# Altium footprint library logo.PCBLIB: 51 footprints (part 1 of 4)
Each footprint in its own frame and in the unit in brackets; x right, y up, seen from the top. Pads: shape width x height; smd on the part's side, far side on the other; paste and mask are expansions set on the pad; w line width, h text height; cw(c..) or ccw(c..) is an arc to the next point about the centre after c.
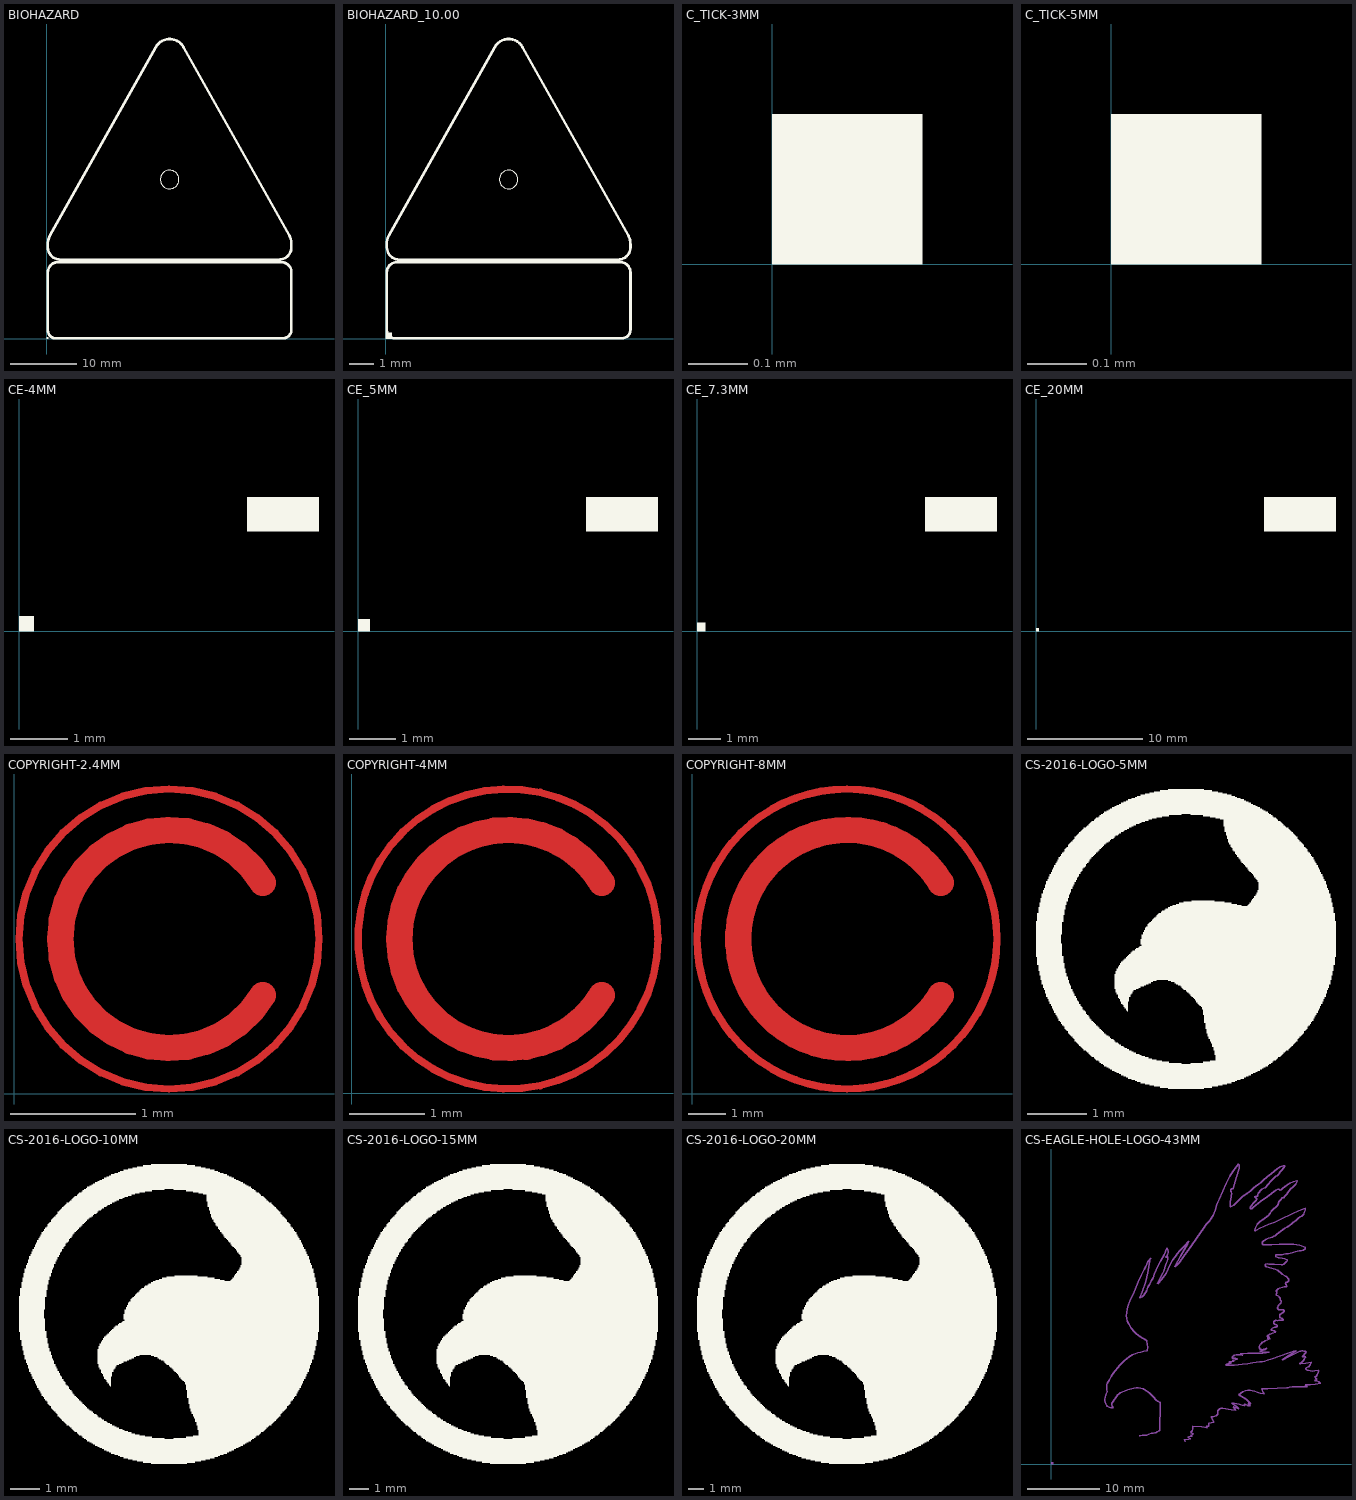
[diagram p0: the footprints below, top view; thin cyan lines are the x and y axes]

## BIOHAZARD [mm]
Top Overlay:
  circle w0.1: c18.6,24.1 r1.4
  region: 0,0 0.254,0 0.254,0.254 0,0.254
  region: 0,0 0.254,0 0.254,0.254 0,0.254
  region: 0,0 0.254,0 0.254,0.254 0,0.254
  region: 0,0 0.254,0 0.254,0.254 0,0.254
  region: 0,0 0.254,0 0.254,0.254 0,0.254
  region: 0,0 0.254,0 0.254,0.254 0,0.254
  region: 0,0 0.254,0 0.254,0.254 0,0.254
  region: 0,0 0.254,0 0.254,0.254 0,0.254
  region: 0,0 0.254,0 0.254,0.254 0,0.254
  region: 0,0 0.254,0 0.254,0.254 0,0.254
  region: 0,0 0.254,0 0.254,0.254 0,0.254
  region: 0,0 0.254,0 0.254,0.254 0,0.254
  region: 0,0 0.254,0 0.254,0.254 0,0.254
  region: 0,0 0.254,0 0.254,0.254 0,0.254
  region: 0,0 0.254,0 0.254,0.254 0,0.254
  region: 0,0 0.254,0 0.254,0.254 0,0.254
  region: 0,0 0.254,0 0.254,0.254 0,0.254
  region: 0,0 0.254,0 0.254,0.254 0,0.254
  region: 0,0 0.254,0 0.254,0.254 0,0.254
  region: 0,0 0.254,0 0.254,0.254 0,0.254
  region: 0,0 0.254,0 0.254,0.254 0,0.254
  lines w0.4: 0.2,1.3 0.2,10.1 cw(c1.7,10.1) 1.7,11.6 35.5,11.6 cw(c35.5,10.1) 37,10.1 37,1.4 cw(c35.7,1.4) 35.7,0.1 1.4,0.1 cw(c1.4,1.3) 0.2,1.3 ; 0.2,13.8 ccw(c2.05,13.85) 2.1,12 35.1,12 ccw(c35.15,13.85) 37,13.8 37,14.3 ccw(c34.575,14.425) 36.7,15.6 20.7,44.1 ccw(c18.6,42.922) 16.5,44.1 0.5,15.6 ccw(c2.625,14.425) 0.2,14.3 0.2,13.8

## BIOHAZARD_10.00 [mm]
Top Overlay:
  circle w0.027: c4.995,6.472 r0.376
  region: 0,0 0.254,0 0.254,0.254 0,0.254
  region: 0,0 0.254,0 0.254,0.254 0,0.254
  region: 0,0 0.254,0 0.254,0.254 0,0.254
  region: 0,0 0.254,0 0.254,0.254 0,0.254
  region: 0,0 0.254,0 0.254,0.254 0,0.254
  region: 0,0 0.254,0 0.254,0.254 0,0.254
  region: 0,0 0.254,0 0.254,0.254 0,0.254
  region: 0,0 0.254,0 0.254,0.254 0,0.254
  region: 0,0 0.254,0 0.254,0.254 0,0.254
  region: 0,0 0.254,0 0.254,0.254 0,0.254
  region: 0,0 0.254,0 0.254,0.254 0,0.254
  region: 0,0 0.254,0 0.254,0.254 0,0.254
  region: 0,0 0.254,0 0.254,0.254 0,0.254
  region: 0,0 0.254,0 0.254,0.254 0,0.254
  region: 0,0 0.254,0 0.254,0.254 0,0.254
  region: 0,0 0.254,0 0.254,0.254 0,0.254
  region: 0,0 0.254,0 0.254,0.254 0,0.254
  region: 0,0 0.254,0 0.254,0.254 0,0.254
  region: 0,0 0.254,0 0.254,0.254 0,0.254
  region: 0,0 0.254,0 0.254,0.254 0,0.254
  region: 0,0 0.254,0 0.254,0.254 0,0.254
  lines w0.107: 0.054,0.349 0.054,2.712 cw(c0.456,2.712) 0.456,3.115 9.533,3.115 cw(c9.533,2.712) 9.936,2.712 9.936,0.376 cw(c9.587,0.376) 9.587,0.027 0.376,0.027 cw(c0.376,0.349) 0.054,0.349 ; 0.054,3.706 ccw(c0.55,3.719) 0.564,3.223 9.426,3.222 ccw(c9.439,3.719) 9.936,3.706 9.936,3.84 ccw(c9.285,3.874) 9.855,4.189 5.559,11.842 ccw(c4.995,11.526) 4.431,11.842 0.134,4.189 ccw(c0.705,3.873) 0.054,3.84 0.054,3.706

## C_TICK-3MM [mm]
Top Overlay:
  region: 0,0 0.254,0 0.254,0.254 0,0.254

## C_TICK-5MM [mm]
Top Overlay:
  region: 0,0 0.254,0 0.254,0.254 0,0.254

## CE-4MM [mm]
Top Overlay:
  rectangle: 3.96,1.73 5.21,2.33
  region: 0,0 0.254,0 0.254,0.254 0,0.254
  region: 0,0 0.254,0 0.254,0.254 0,0.254

## CE_5MM [mm]
Top Overlay:
  rectangle: 4.95,2.163 6.513,2.913
  region: 0,0 0.254,0 0.254,0.254 0,0.254
  region: 0,0 0.254,0 0.254,0.254 0,0.254

## CE_7.3MM [mm]
Top Overlay:
  rectangle: 7.092,3.098 9.33,4.173
  region: 0,0 0.254,0 0.254,0.254 0,0.254
  region: 0,0 0.254,0 0.254,0.254 0,0.254

## CE_20MM [mm]
Top Overlay:
  rectangle: 19.8,8.65 26.05,11.65
  region: 0,0 0.254,0 0.254,0.254 0,0.254
  region: 0,0 0.254,0 0.254,0.254 0,0.254

## COPYRIGHT-2.4MM [mm]
Top Layer:
  circle w0.06: c1.238,1.238 r1.2
  lines w0.21: 1.988,0.788 cw(c1.241,1.238) 1.988,1.688

## COPYRIGHT-4MM [mm]
Top Layer:
  circle w0.1: c2.08,2.055 r2
  lines w0.35: 3.33,1.305 cw(c2.084,2.055) 3.33,2.805

## COPYRIGHT-8MM [mm]
Top Layer:
  circle w0.2: c4.127,4.127 r4
  lines w0.7: 6.628,2.627 cw(c4.136,4.127) 6.628,5.628

## CS-2016-LOGO-5MM [mm]
Top Overlay:
  drawing of 517 lines, arcs and shapes, not listed

## CS-2016-LOGO-10MM [mm]
Top Overlay:
  drawing of 517 lines, arcs and shapes, not listed

## CS-2016-LOGO-15MM [mm]
Top Overlay:
  drawing of 517 lines, arcs and shapes, not listed

## CS-2016-LOGO-20MM [mm]
Top Overlay:
  drawing of 517 lines, arcs and shapes, not listed

## CS-EAGLE-HOLE-LOGO-43MM [mm]
Mechanical 16:
  drawing of 1039 lines, arcs and shapes, not listed